# EAGLE library part SP3485 (library Eagle_CAD_parts)
IC TRANSCEIVER HALF 1/1 RS422, RS485
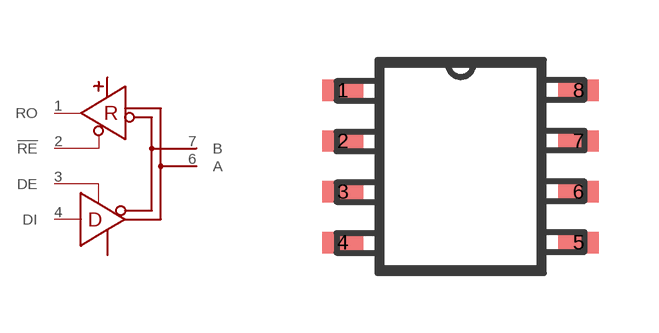
[diagram p92: symbol with the pads of 8-SO; footprint 8-SO]

Designator prefix -

## SP3485EN-L/TR (DIGIKEY_PART_NUMBER: 1016-1817-1-ND; MANUFACTURER_PART_NUMBER: SP3485EN-L/TR)  [8-SO]
1  RO
2  !RE
3  DE
4  DI
5  GND  pwr
6  A
7  B
8  VCC  pwr

## Footprint 8-SO (pad centres in mm)
smd 1.016 x 0.533: 1 -2.946,1.905; 2 -2.946,0.635; 3 -2.946,-0.635; 4 -2.946,-1.905; 5 2.946,-1.905; 6 2.946,-0.635; 7 2.946,0.635; 8 2.946,1.905